# Altium footprint library Micro.PcbLib: 1 footprints
Each footprint in its own frame and in the unit in brackets; x right, y up, seen from the top. Pads: shape width x height; smd on the part's side, far side on the other; paste and mask are expansions set on the pad; w line width, h text height; cw(c..) or ccw(c..) is an arc to the next point about the centre after c.
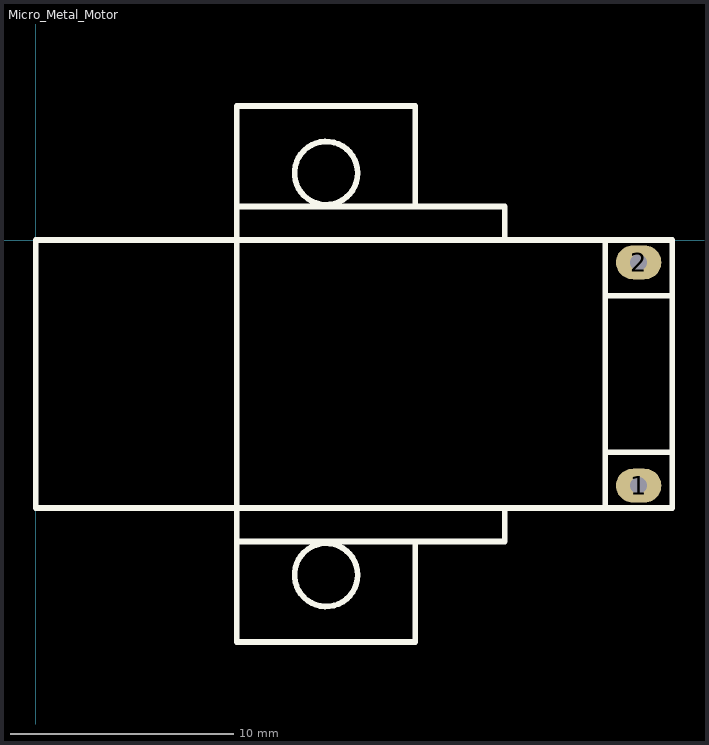
[diagram p0: the footprint, top view; thin cyan lines are the x and y axes]

## Micro_Metal_Motor [mil]
pads (2):
  oval 80x60 hole 30: 1(1062.99,-433.07) 2(1062.99,-39.37)
Top Overlay:
  circle w10: c511.81,-590.55 r55.68
  circle w10: c511.81,118.11 r55.68
  lines w10: 669.29,-531.5 669.29,-708.66 629.92,-708.66 610.24,-708.66 354.33,-708.66 354.33,-590.55 354.33,-472.44 ; 669.29,59.06 669.29,236.22 629.92,236.22 610.24,236.22 354.33,236.22 354.33,118.11 354.33,0 ; 826.77,-472.44 826.77,-531.5 354.33,-531.5 354.33,-472.44 ; 826.77,0 826.77,59.06 354.33,59.06 354.33,0 ; 1003.94,-374.02 1122.05,-374.02 1122.05,-98.43 1003.94,-98.43 ; 354.33,-472.44 1003.94,-472.44 ; 354.33,-472.44 0,-472.44 0,0 354.33,0 ; 354.33,-472.44 354.33,0 ; 354.33,0 1003.94,0 ; 1003.94,-472.44 1122.05,-472.44 1122.05,0 1003.94,0 ; 1003.94,-472.44 1003.94,0